# Altium integrated library TI Data Converters Digital to Analog Converter.IntLib: 1533 symbols (part 68 of 99)
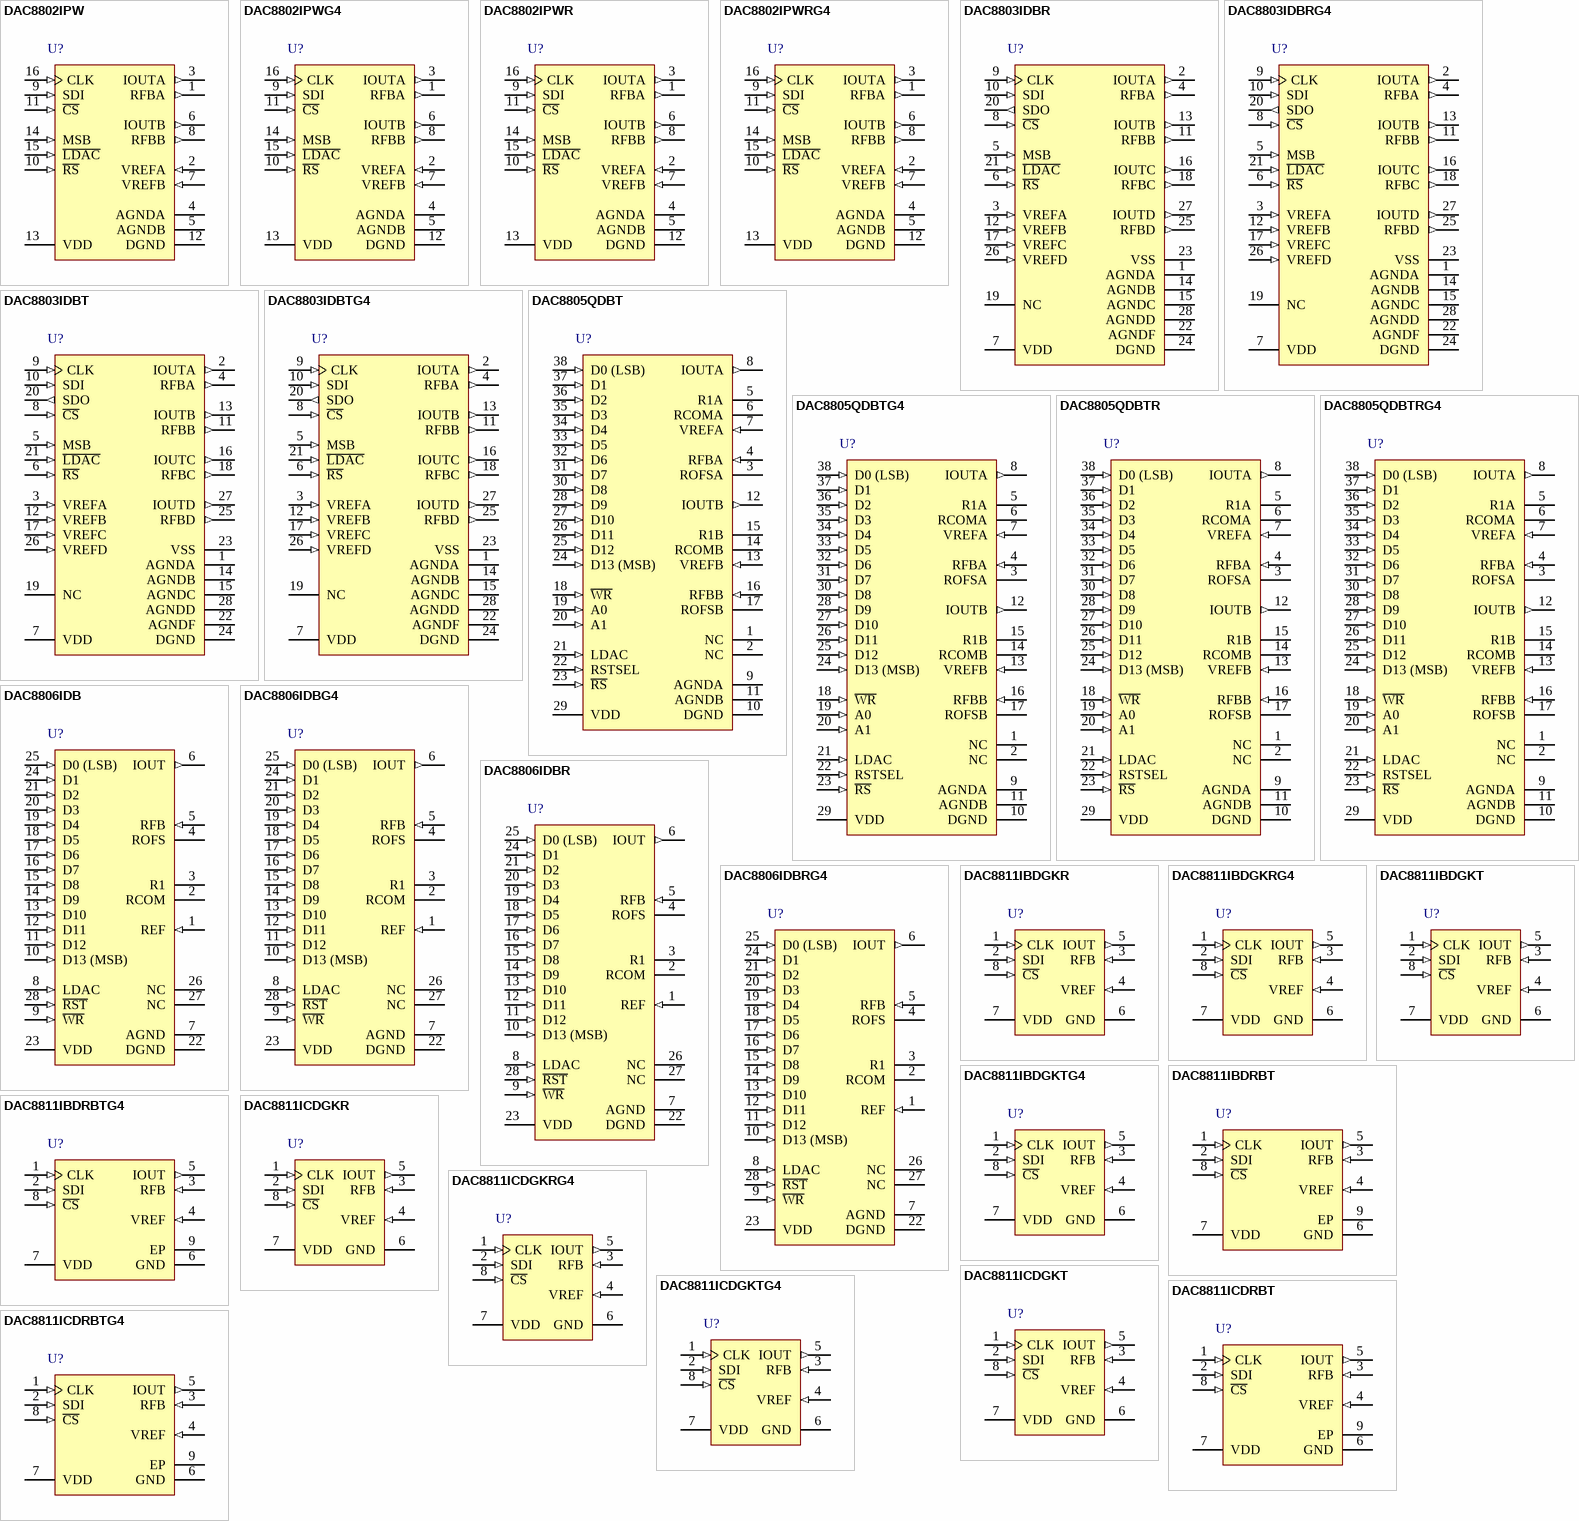
[diagram p140: symbols DAC8802IPW to DAC8811ICDRBTG4]

## DAC8811IBDGKRG4
designator U?
16-Bit, Serial Input Multiplying Digital to Analog Converter, -40 to 85 degC, 8-pin SOP (DGK8), Green (RoHS & no Sb/Br); Manufacturer: Texas Instruments; PartNumber: DAC8811IBDGKRG4; DAC Channels: 1; INL(Max)(+/-LSB): 2; Interface: Serial SPI; Power Consumption(Typ)(mW): 0.025; Resolution(Bits): 16; Settling Time(us): 0.5; SubFamily: Precision DAC (=<10MSPS); DatasheetVersion: SLAS411B; PackageVersion: 4073329/E, 05/2006; PackageReference: DGK8; PackageDescription: 8-Pin Thin Small Outline, Body 3 x 3 mm, Pitch 0.65 mm; Supplier 1: Digi-Key; Supplier Part Number 1: DAC8811IBDGKRG4-ND; Supplier 2: Mouser; Supplier Part Number 2: 595-DAC8811IBDGKRG4; DNL(Max)(+/-LSB): 1; Eco-Plan: Green (RoHS & no Sb/Br); Mounting Technology: Surface Mount; Code_JEDEC: MO-187; ComponentLink1Description: Manufacturer URL; ComponentLink1URL: http://www.ti.com/; ComponentLink2Description: Datasheet; ComponentLink2URL: http://www.ti.com/general/docs/lit/getliterature.tsp?genericPartNumber=DAC8811&fileType=pdf; ComponentLink3Description: Package Specification; ComponentLink3URL: http://www.ti.com/litv/pdf/mpds028d
footprint TI-DGK8_N (SOP, 8-Leads, Body 3x3mm, Pitch 0.65mm, IPC Medium Density)
footprint TI-DGK8_L (SOP, 8-Leads, Body 3x3mm, Pitch 0.65mm, IPC High Density)
footprint TI-DGK8_M (SOP, 8-Leads, Body 3x3mm, Pitch 0.65mm, IPC Low Density)
pins: 1 CLK (in) "Clock input, positive edge triggered clocks data into shift register", 2 SDI (in) "Serial register input, data loads directly into the shift register MSB first. Extra leading bits are ignored", 3 RFB (in) "Internal matching feedback resistor. Connect to external op amp output.", 4 VREF (in) "DAC reference input pin. Establishes DAC full-scale voltage. Constant input resistance versus code", 5 IOUT (out) "DAC current output. Connects to inverting terminal of external precision I to V op amp.", 6 GND (power) "Analog and digital ground", 7 VDD (power) "Posiitve power supply input. Specified range of operation 2.7 V to 5.5 V", 8 ~{CS} (in) "Chip select, active low digital input. Transfers shift register data to DAC register on rising edge."

## DAC8811IBDGKT
designator U?
16-Bit, Serial Input Multiplying Digital to Analog Converter, -40 to 85 degC, 8-pin SOP (DGK8), Green (RoHS & no Sb/Br); Manufacturer: Texas Instruments; PartNumber: DAC8811IBDGKT; DAC Channels: 1; INL(Max)(+/-LSB): 2; Interface: Serial SPI; Power Consumption(Typ)(mW): 0.025; Resolution(Bits): 16; Settling Time(us): 0.5; SubFamily: Precision DAC (=<10MSPS); DatasheetVersion: SLAS411B; PackageVersion: 4073329/E, 05/2006; PackageReference: DGK8; PackageDescription: 8-Pin Thin Small Outline, Body 3 x 3 mm, Pitch 0.65 mm; Supplier 1: Digi-Key; Supplier Part Number 1: 296-17643-2-ND; Supplier 2: Digi-Key; Supplier Part Number 2: 296-17643-1-ND; Supplier 3: Newark; Supplier Part Number 3: 73J8228; Supplier 4: Mouser; Supplier Part Number 4: 595-DAC8811IBDGKT; DNL(Max)(+/-LSB): 1; Eco-Plan: Green (RoHS & no Sb/Br); Mounting Technology: Surface Mount; Code_JEDEC: MO-187; ComponentLink1Description: Manufacturer URL; ComponentLink1URL: http://www.ti.com/; ComponentLink2Description: Datasheet; ComponentLink2URL: http://www.ti.com/general/docs/lit/getliterature.tsp?genericPartNumber=DAC8811&fileType=pdf; ComponentLink3Description: Package Specification; ComponentLink3URL: http://www.ti.com/litv/pdf/mpds028d
footprint TI-DGK8_N (SOP, 8-Leads, Body 3x3mm, Pitch 0.65mm, IPC Medium Density)
footprint TI-DGK8_L (SOP, 8-Leads, Body 3x3mm, Pitch 0.65mm, IPC High Density)
footprint TI-DGK8_M (SOP, 8-Leads, Body 3x3mm, Pitch 0.65mm, IPC Low Density)
pins: 1 CLK (in) "Clock input, positive edge triggered clocks data into shift register", 2 SDI (in) "Serial register input, data loads directly into the shift register MSB first. Extra leading bits are ignored", 3 RFB (in) "Internal matching feedback resistor. Connect to external op amp output.", 4 VREF (in) "DAC reference input pin. Establishes DAC full-scale voltage. Constant input resistance versus code", 5 IOUT (out) "DAC current output. Connects to inverting terminal of external precision I to V op amp.", 6 GND (power) "Analog and digital ground", 7 VDD (power) "Posiitve power supply input. Specified range of operation 2.7 V to 5.5 V", 8 ~{CS} (in) "Chip select, active low digital input. Transfers shift register data to DAC register on rising edge."

## DAC8811IBDGKTG4
designator U?
16-Bit, Serial Input Multiplying Digital to Analog Converter, -40 to 85 degC, 8-pin SOP (DGK8), Green (RoHS & no Sb/Br); Manufacturer: Texas Instruments; PartNumber: DAC8811IBDGKTG4; DAC Channels: 1; INL(Max)(+/-LSB): 2; Interface: Serial SPI; Power Consumption(Typ)(mW): 0.025; Resolution(Bits): 16; Settling Time(us): 0.5; SubFamily: Precision DAC (=<10MSPS); DatasheetVersion: SLAS411B; PackageVersion: 4073329/E, 05/2006; PackageReference: DGK8; PackageDescription: 8-Pin Thin Small Outline, Body 3 x 3 mm, Pitch 0.65 mm; Supplier 1: Digi-Key; Supplier Part Number 1: DAC8811IBDGKTG4-ND; Supplier 2: Mouser; Supplier Part Number 2: 595-DAC8811IBDGKTG4; DNL(Max)(+/-LSB): 1; Eco-Plan: Green (RoHS & no Sb/Br); Mounting Technology: Surface Mount; Code_JEDEC: MO-187; ComponentLink1Description: Manufacturer URL; ComponentLink1URL: http://www.ti.com/; ComponentLink2Description: Datasheet; ComponentLink2URL: http://www.ti.com/general/docs/lit/getliterature.tsp?genericPartNumber=DAC8811&fileType=pdf; ComponentLink3Description: Package Specification; ComponentLink3URL: http://www.ti.com/litv/pdf/mpds028d
footprint TI-DGK8_N (SOP, 8-Leads, Body 3x3mm, Pitch 0.65mm, IPC Medium Density)
footprint TI-DGK8_L (SOP, 8-Leads, Body 3x3mm, Pitch 0.65mm, IPC High Density)
footprint TI-DGK8_M (SOP, 8-Leads, Body 3x3mm, Pitch 0.65mm, IPC Low Density)
pins: 1 CLK (in) "Clock input, positive edge triggered clocks data into shift register", 2 SDI (in) "Serial register input, data loads directly into the shift register MSB first. Extra leading bits are ignored", 3 RFB (in) "Internal matching feedback resistor. Connect to external op amp output.", 4 VREF (in) "DAC reference input pin. Establishes DAC full-scale voltage. Constant input resistance versus code", 5 IOUT (out) "DAC current output. Connects to inverting terminal of external precision I to V op amp.", 6 GND (power) "Analog and digital ground", 7 VDD (power) "Posiitve power supply input. Specified range of operation 2.7 V to 5.5 V", 8 ~{CS} (in) "Chip select, active low digital input. Transfers shift register data to DAC register on rising edge."

## DAC8811IBDRBT
designator U?
16-Bit, Serial Input Multiplying Digital to Analog Converter, -40 to 85 degC, 8-pin SON (DRB8), Green (RoHS & no Sb/Br); Manufacturer: Texas Instruments; PartNumber: DAC8811IBDRBT; DAC Channels: 1; INL(Max)(+/-LSB): 2; Interface: Serial SPI; Power Consumption(Typ)(mW): 0.025; Resolution(Bits): 16; Settling Time(us): 0.5; SubFamily: Precision DAC (=<10MSPS); DatasheetVersion: SLAS411B; PackageVersion: 4203482-2/K, 06/2012; PackageReference: DRB8-1750X1500TP; PackageDescription: 8-Pin Plastic Small Outline, Body 3 x 3 mm, Pitch 0.65 mm; Supplier 1: Digi-Key; Supplier Part Number 1: 296-17644-2-ND; Supplier 2: Digi-Key; Supplier Part Number 2: 296-17644-1-ND; Supplier 3: Digi-Key; Supplier Part Number 3: 296-17644-6-ND; Supplier 4: Mouser; Supplier Part Number 4: 595-DAC8811IBDRBT; DNL(Max)(+/-LSB): 1; Eco-Plan: Green (RoHS & no Sb/Br); Mounting Technology: Surface Mount; ComponentLink1Description: Manufacturer URL; ComponentLink1URL: http://www.ti.com/; ComponentLink2Description: Datasheet; ComponentLink2URL: http://www.ti.com/general/docs/lit/getliterature.tsp?genericPartNumber=DAC8811&fileType=pdf; ComponentLink3Description: Package Specification; ComponentLink3URL: http://www.ti.com/litv/pdf/mpds118h
footprint TI-DRB8-1750X1500TP_V (SON, 8-Leads, Body 3x3mm, Pitch 0.65mm, Thermal Pad 1.50 x 3.8mm)
pins: 1 CLK (in) "Clock input, positive edge triggered clocks data into shift register", 2 SDI (in) "Serial register input, data loads directly into the shift register MSB first. Extra leading bits are ignored", 3 RFB (in) "Internal matching feedback resistor. Connect to external op amp output.", 4 VREF (in) "DAC reference input pin. Establishes DAC full-scale voltage. Constant input resistance versus code", 5 IOUT (out) "DAC current output. Connects to inverting terminal of external precision I to V op amp.", 6 GND (power) "Analog and digital ground", 7 VDD (power) "Posiitve power supply input. Specified range of operation 2.7 V to 5.5 V", 8 ~{CS} (in) "Chip select, active low digital input. Transfers shift register data to DAC register on rising edge.", 9 EP

## DAC8811IBDRBTG4
designator U?
16-Bit, Serial Input Multiplying Digital to Analog Converter, -40 to 85 degC, 8-pin SON (DRB8), Green (RoHS & no Sb/Br); Manufacturer: Texas Instruments; PartNumber: DAC8811IBDRBTG4; DAC Channels: 1; INL(Max)(+/-LSB): 2; Interface: Serial SPI; Power Consumption(Typ)(mW): 0.025; Resolution(Bits): 16; Settling Time(us): 0.5; SubFamily: Precision DAC (=<10MSPS); DatasheetVersion: SLAS411B; PackageVersion: 4203482-2/K, 06/2012; PackageReference: DRB8-1750X1500TP; PackageDescription: 8-Pin Plastic Small Outline, Body 3 x 3 mm, Pitch 0.65 mm; Supplier 1: Digi-Key; Supplier Part Number 1: DAC8811IBDRBTG4-ND; Supplier 2: Mouser; Supplier Part Number 2: 595-DAC8811IBDRBTG4; DNL(Max)(+/-LSB): 1; Eco-Plan: Green (RoHS & no Sb/Br); Mounting Technology: Surface Mount; ComponentLink1Description: Manufacturer URL; ComponentLink1URL: http://www.ti.com/; ComponentLink2Description: Datasheet; ComponentLink2URL: http://www.ti.com/general/docs/lit/getliterature.tsp?genericPartNumber=DAC8811&fileType=pdf; ComponentLink3Description: Package Specification; ComponentLink3URL: http://www.ti.com/litv/pdf/mpds118h
footprint TI-DRB8-1750X1500TP_V (SON, 8-Leads, Body 3x3mm, Pitch 0.65mm, Thermal Pad 1.50 x 3.8mm)
pins: 1 CLK (in) "Clock input, positive edge triggered clocks data into shift register", 2 SDI (in) "Serial register input, data loads directly into the shift register MSB first. Extra leading bits are ignored", 3 RFB (in) "Internal matching feedback resistor. Connect to external op amp output.", 4 VREF (in) "DAC reference input pin. Establishes DAC full-scale voltage. Constant input resistance versus code", 5 IOUT (out) "DAC current output. Connects to inverting terminal of external precision I to V op amp.", 6 GND (power) "Analog and digital ground", 7 VDD (power) "Posiitve power supply input. Specified range of operation 2.7 V to 5.5 V", 8 ~{CS} (in) "Chip select, active low digital input. Transfers shift register data to DAC register on rising edge.", 9 EP

## DAC8811ICDGKR
designator U?
16-Bit, Serial Input Multiplying Digital to Analog Converter, -40 to 85 degC, 8-pin SOP (DGK8), Green (RoHS & no Sb/Br); Manufacturer: Texas Instruments; PartNumber: DAC8811ICDGKR; DAC Channels: 1; Interface: Serial SPI; Power Consumption(Typ)(mW): 0.025; Resolution(Bits): 16; Settling Time(us): 0.5; SubFamily: Precision DAC (=<10MSPS); DatasheetVersion: SLAS411B; PackageVersion: 4073329/E, 05/2006; PackageReference: DGK8; PackageDescription: 8-Pin Thin Small Outline, Body 3 x 3 mm, Pitch 0.65 mm; Supplier 1: Digi-Key; Supplier Part Number 1: DAC8811ICDGKR-ND; Supplier 2: Newark; Supplier Part Number 2: 73J8231; Supplier 3: Mouser; Supplier Part Number 3: 595-DAC8811ICDGKR; DNL(Max)(+/-LSB): 1; Eco-Plan: Green (RoHS & no Sb/Br); INL(Max)(+/-LSB): 1; Mounting Technology: Surface Mount; Code_JEDEC: MO-187; ComponentLink1Description: Manufacturer URL; ComponentLink1URL: http://www.ti.com/; ComponentLink2Description: Datasheet; ComponentLink2URL: http://www.ti.com/general/docs/lit/getliterature.tsp?genericPartNumber=DAC8811&fileType=pdf; ComponentLink3Description: Package Specification; ComponentLink3URL: http://www.ti.com/litv/pdf/mpds028d
footprint TI-DGK8_N (SOP, 8-Leads, Body 3x3mm, Pitch 0.65mm, IPC Medium Density)
footprint TI-DGK8_L (SOP, 8-Leads, Body 3x3mm, Pitch 0.65mm, IPC High Density)
footprint TI-DGK8_M (SOP, 8-Leads, Body 3x3mm, Pitch 0.65mm, IPC Low Density)
pins: 1 CLK (in) "Clock input, positive edge triggered clocks data into shift register", 2 SDI (in) "Serial register input, data loads directly into the shift register MSB first. Extra leading bits are ignored", 3 RFB (in) "Internal matching feedback resistor. Connect to external op amp output.", 4 VREF (in) "DAC reference input pin. Establishes DAC full-scale voltage. Constant input resistance versus code", 5 IOUT (out) "DAC current output. Connects to inverting terminal of external precision I to V op amp.", 6 GND (power) "Analog and digital ground", 7 VDD (power) "Posiitve power supply input. Specified range of operation 2.7 V to 5.5 V", 8 ~{CS} (in) "Chip select, active low digital input. Transfers shift register data to DAC register on rising edge."

## DAC8811ICDGKRG4
designator U?
16-Bit, Serial Input Multiplying Digital to Analog Converter, -40 to 85 degC, 8-pin SOP (DGK8), Green (RoHS & no Sb/Br); Manufacturer: Texas Instruments; PartNumber: DAC8811ICDGKRG4; DAC Channels: 1; Interface: Serial SPI; Power Consumption(Typ)(mW): 0.025; Resolution(Bits): 16; Settling Time(us): 0.5; SubFamily: Precision DAC (=<10MSPS); DatasheetVersion: SLAS411B; PackageVersion: 4073329/E, 05/2006; PackageReference: DGK8; PackageDescription: 8-Pin Thin Small Outline, Body 3 x 3 mm, Pitch 0.65 mm; Supplier 1: Digi-Key; Supplier Part Number 1: DAC8811ICDGKRG4-ND; Supplier 2: Newark; Supplier Part Number 2: 20M5095; Supplier 3: Mouser; Supplier Part Number 3: 595-DAC8811ICDGKRG4; DNL(Max)(+/-LSB): 1; Eco-Plan: Green (RoHS & no Sb/Br); INL(Max)(+/-LSB): 1; Mounting Technology: Surface Mount; Code_JEDEC: MO-187; ComponentLink1Description: Manufacturer URL; ComponentLink1URL: http://www.ti.com/; ComponentLink2Description: Datasheet; ComponentLink2URL: http://www.ti.com/general/docs/lit/getliterature.tsp?genericPartNumber=DAC8811&fileType=pdf; ComponentLink3Description: Package Specification; ComponentLink3URL: http://www.ti.com/litv/pdf/mpds028d
footprint TI-DGK8_N (SOP, 8-Leads, Body 3x3mm, Pitch 0.65mm, IPC Medium Density)
footprint TI-DGK8_L (SOP, 8-Leads, Body 3x3mm, Pitch 0.65mm, IPC High Density)
footprint TI-DGK8_M (SOP, 8-Leads, Body 3x3mm, Pitch 0.65mm, IPC Low Density)
pins: 1 CLK (in) "Clock input, positive edge triggered clocks data into shift register", 2 SDI (in) "Serial register input, data loads directly into the shift register MSB first. Extra leading bits are ignored", 3 RFB (in) "Internal matching feedback resistor. Connect to external op amp output.", 4 VREF (in) "DAC reference input pin. Establishes DAC full-scale voltage. Constant input resistance versus code", 5 IOUT (out) "DAC current output. Connects to inverting terminal of external precision I to V op amp.", 6 GND (power) "Analog and digital ground", 7 VDD (power) "Posiitve power supply input. Specified range of operation 2.7 V to 5.5 V", 8 ~{CS} (in) "Chip select, active low digital input. Transfers shift register data to DAC register on rising edge."

## DAC8811ICDGKT
designator U?
16-Bit, Serial Input Multiplying Digital to Analog Converter, -40 to 85 degC, 8-pin SOP (DGK8), Green (RoHS & no Sb/Br); Manufacturer: Texas Instruments; PartNumber: DAC8811ICDGKT; DAC Channels: 1; Interface: Serial SPI; Power Consumption(Typ)(mW): 0.025; Resolution(Bits): 16; Settling Time(us): 0.5; SubFamily: Precision DAC (=<10MSPS); DatasheetVersion: SLAS411B; PackageVersion: 4073329/E, 05/2006; PackageReference: DGK8; PackageDescription: 8-Pin Thin Small Outline, Body 3 x 3 mm, Pitch 0.65 mm; Supplier 1: Digi-Key; Supplier Part Number 1: 296-17645-2-ND; Supplier 2: Digi-Key; Supplier Part Number 2: 296-17645-1-ND; Supplier 3: Digi-Key; Supplier Part Number 3: 296-17645-6-ND; Supplier 4: Newark; Supplier Part Number 4: 73J8232; Supplier 5: Mouser; Supplier Part Number 5: 595-DAC8811ICDGKT; DNL(Max)(+/-LSB): 1; Eco-Plan: Green (RoHS & no Sb/Br); INL(Max)(+/-LSB): 1; Mounting Technology: Surface Mount; Code_JEDEC: MO-187; ComponentLink1Description: Manufacturer URL; ComponentLink1URL: http://www.ti.com/; ComponentLink2Description: Datasheet; ComponentLink2URL: http://www.ti.com/general/docs/lit/getliterature.tsp?genericPartNumber=DAC8811&fileType=pdf; ComponentLink3Description: Package Specification; ComponentLink3URL: http://www.ti.com/litv/pdf/mpds028d
footprint TI-DGK8_N (SOP, 8-Leads, Body 3x3mm, Pitch 0.65mm, IPC Medium Density)
footprint TI-DGK8_L (SOP, 8-Leads, Body 3x3mm, Pitch 0.65mm, IPC High Density)
footprint TI-DGK8_M (SOP, 8-Leads, Body 3x3mm, Pitch 0.65mm, IPC Low Density)
pins: 1 CLK (in) "Clock input, positive edge triggered clocks data into shift register", 2 SDI (in) "Serial register input, data loads directly into the shift register MSB first. Extra leading bits are ignored", 3 RFB (in) "Internal matching feedback resistor. Connect to external op amp output.", 4 VREF (in) "DAC reference input pin. Establishes DAC full-scale voltage. Constant input resistance versus code", 5 IOUT (out) "DAC current output. Connects to inverting terminal of external precision I to V op amp.", 6 GND (power) "Analog and digital ground", 7 VDD (power) "Posiitve power supply input. Specified range of operation 2.7 V to 5.5 V", 8 ~{CS} (in) "Chip select, active low digital input. Transfers shift register data to DAC register on rising edge."

## DAC8811ICDGKTG4
designator U?
16-Bit, Serial Input Multiplying Digital to Analog Converter, -40 to 85 degC, 8-pin SOP (DGK8), Green (RoHS & no Sb/Br); Manufacturer: Texas Instruments; PartNumber: DAC8811ICDGKTG4; DAC Channels: 1; Interface: Serial SPI; Power Consumption(Typ)(mW): 0.025; Resolution(Bits): 16; Settling Time(us): 0.5; SubFamily: Precision DAC (=<10MSPS); DatasheetVersion: SLAS411B; PackageVersion: 4073329/E, 05/2006; PackageReference: DGK8; PackageDescription: 8-Pin Thin Small Outline, Body 3 x 3 mm, Pitch 0.65 mm; Supplier 1: Digi-Key; Supplier Part Number 1: DAC8811ICDGKTG4-ND; Supplier 2: Newark; Supplier Part Number 2: 26M9130; Supplier 3: Mouser; Supplier Part Number 3: 595-DAC8811ICDGKTG4; DNL(Max)(+/-LSB): 1; Eco-Plan: Green (RoHS & no Sb/Br); INL(Max)(+/-LSB): 1; Mounting Technology: Surface Mount; Code_JEDEC: MO-187; ComponentLink1Description: Manufacturer URL; ComponentLink1URL: http://www.ti.com/; ComponentLink2Description: Datasheet; ComponentLink2URL: http://www.ti.com/general/docs/lit/getliterature.tsp?genericPartNumber=DAC8811&fileType=pdf; ComponentLink3Description: Package Specification; ComponentLink3URL: http://www.ti.com/litv/pdf/mpds028d
footprint TI-DGK8_N (SOP, 8-Leads, Body 3x3mm, Pitch 0.65mm, IPC Medium Density)
footprint TI-DGK8_L (SOP, 8-Leads, Body 3x3mm, Pitch 0.65mm, IPC High Density)
footprint TI-DGK8_M (SOP, 8-Leads, Body 3x3mm, Pitch 0.65mm, IPC Low Density)
pins: 1 CLK (in) "Clock input, positive edge triggered clocks data into shift register", 2 SDI (in) "Serial register input, data loads directly into the shift register MSB first. Extra leading bits are ignored", 3 RFB (in) "Internal matching feedback resistor. Connect to external op amp output.", 4 VREF (in) "DAC reference input pin. Establishes DAC full-scale voltage. Constant input resistance versus code", 5 IOUT (out) "DAC current output. Connects to inverting terminal of external precision I to V op amp.", 6 GND (power) "Analog and digital ground", 7 VDD (power) "Posiitve power supply input. Specified range of operation 2.7 V to 5.5 V", 8 ~{CS} (in) "Chip select, active low digital input. Transfers shift register data to DAC register on rising edge."

## DAC8811ICDRBT
designator U?
16-Bit, Serial Input Multiplying Digital to Analog Converter, -40 to 85 degC, 8-pin SON (DRB8), Green (RoHS & no Sb/Br); Manufacturer: Texas Instruments; PartNumber: DAC8811ICDRBT; DAC Channels: 1; Interface: Serial SPI; Power Consumption(Typ)(mW): 0.025; Resolution(Bits): 16; Settling Time(us): 0.5; SubFamily: Precision DAC (=<10MSPS); DatasheetVersion: SLAS411B; PackageVersion: 4203482-2/K, 06/2012; PackageReference: DRB8-1750X1500TP; PackageDescription: 8-Pin Plastic Small Outline, Body 3 x 3 mm, Pitch 0.65 mm; Supplier 1: Digi-Key; Supplier Part Number 1: 296-17646-2-ND; Supplier 2: Digi-Key; Supplier Part Number 2: 296-17646-1-ND; Supplier 3: Digi-Key; Supplier Part Number 3: 296-17646-6-ND; Supplier 4: Mouser; Supplier Part Number 4: 595-DAC8811ICDRBT; DNL(Max)(+/-LSB): 1; Eco-Plan: Green (RoHS & no Sb/Br); INL(Max)(+/-LSB): 1; Mounting Technology: Surface Mount; ComponentLink1Description: Manufacturer URL; ComponentLink1URL: http://www.ti.com/; ComponentLink2Description: Datasheet; ComponentLink2URL: http://www.ti.com/general/docs/lit/getliterature.tsp?genericPartNumber=DAC8811&fileType=pdf; ComponentLink3Description: Package Specification; ComponentLink3URL: http://www.ti.com/litv/pdf/mpds118h
footprint TI-DRB8-1750X1500TP_V (SON, 8-Leads, Body 3x3mm, Pitch 0.65mm, Thermal Pad 1.50 x 3.8mm)
pins: 1 CLK (in) "Clock input, positive edge triggered clocks data into shift register", 2 SDI (in) "Serial register input, data loads directly into the shift register MSB first. Extra leading bits are ignored", 3 RFB (in) "Internal matching feedback resistor. Connect to external op amp output.", 4 VREF (in) "DAC reference input pin. Establishes DAC full-scale voltage. Constant input resistance versus code", 5 IOUT (out) "DAC current output. Connects to inverting terminal of external precision I to V op amp.", 6 GND (power) "Analog and digital ground", 7 VDD (power) "Posiitve power supply input. Specified range of operation 2.7 V to 5.5 V", 8 ~{CS} (in) "Chip select, active low digital input. Transfers shift register data to DAC register on rising edge.", 9 EP

## DAC8811ICDRBTG4
designator U?
16-Bit, Serial Input Multiplying Digital to Analog Converter, -40 to 85 degC, 8-pin SON (DRB8), Green (RoHS & no Sb/Br); Manufacturer: Texas Instruments; PartNumber: DAC8811ICDRBTG4; DAC Channels: 1; Interface: Serial SPI; Power Consumption(Typ)(mW): 0.025; Resolution(Bits): 16; Settling Time(us): 0.5; SubFamily: Precision DAC (=<10MSPS); DatasheetVersion: SLAS411B; PackageVersion: 4203482-2/K, 06/2012; PackageReference: DRB8-1750X1500TP; PackageDescription: 8-Pin Plastic Small Outline, Body 3 x 3 mm, Pitch 0.65 mm; Supplier 1: Digi-Key; Supplier Part Number 1: DAC8811ICDRBTG4-ND; Supplier 2: Mouser; Supplier Part Number 2: 595-DAC8811ICDRBTG4; DNL(Max)(+/-LSB): 1; Eco-Plan: Green (RoHS & no Sb/Br); INL(Max)(+/-LSB): 1; Mounting Technology: Surface Mount; ComponentLink1Description: Manufacturer URL; ComponentLink1URL: http://www.ti.com/; ComponentLink2Description: Datasheet; ComponentLink2URL: http://www.ti.com/general/docs/lit/getliterature.tsp?genericPartNumber=DAC8811&fileType=pdf; ComponentLink3Description: Package Specification; ComponentLink3URL: http://www.ti.com/litv/pdf/mpds118h
footprint TI-DRB8-1750X1500TP_V (SON, 8-Leads, Body 3x3mm, Pitch 0.65mm, Thermal Pad 1.50 x 3.8mm)
pins: 1 CLK (in) "Clock input, positive edge triggered clocks data into shift register", 2 SDI (in) "Serial register input, data loads directly into the shift register MSB first. Extra leading bits are ignored", 3 RFB (in) "Internal matching feedback resistor. Connect to external op amp output.", 4 VREF (in) "DAC reference input pin. Establishes DAC full-scale voltage. Constant input resistance versus code", 5 IOUT (out) "DAC current output. Connects to inverting terminal of external precision I to V op amp.", 6 GND (power) "Analog and digital ground", 7 VDD (power) "Posiitve power supply input. Specified range of operation 2.7 V to 5.5 V", 8 ~{CS} (in) "Chip select, active low digital input. Transfers shift register data to DAC register on rising edge.", 9 EP

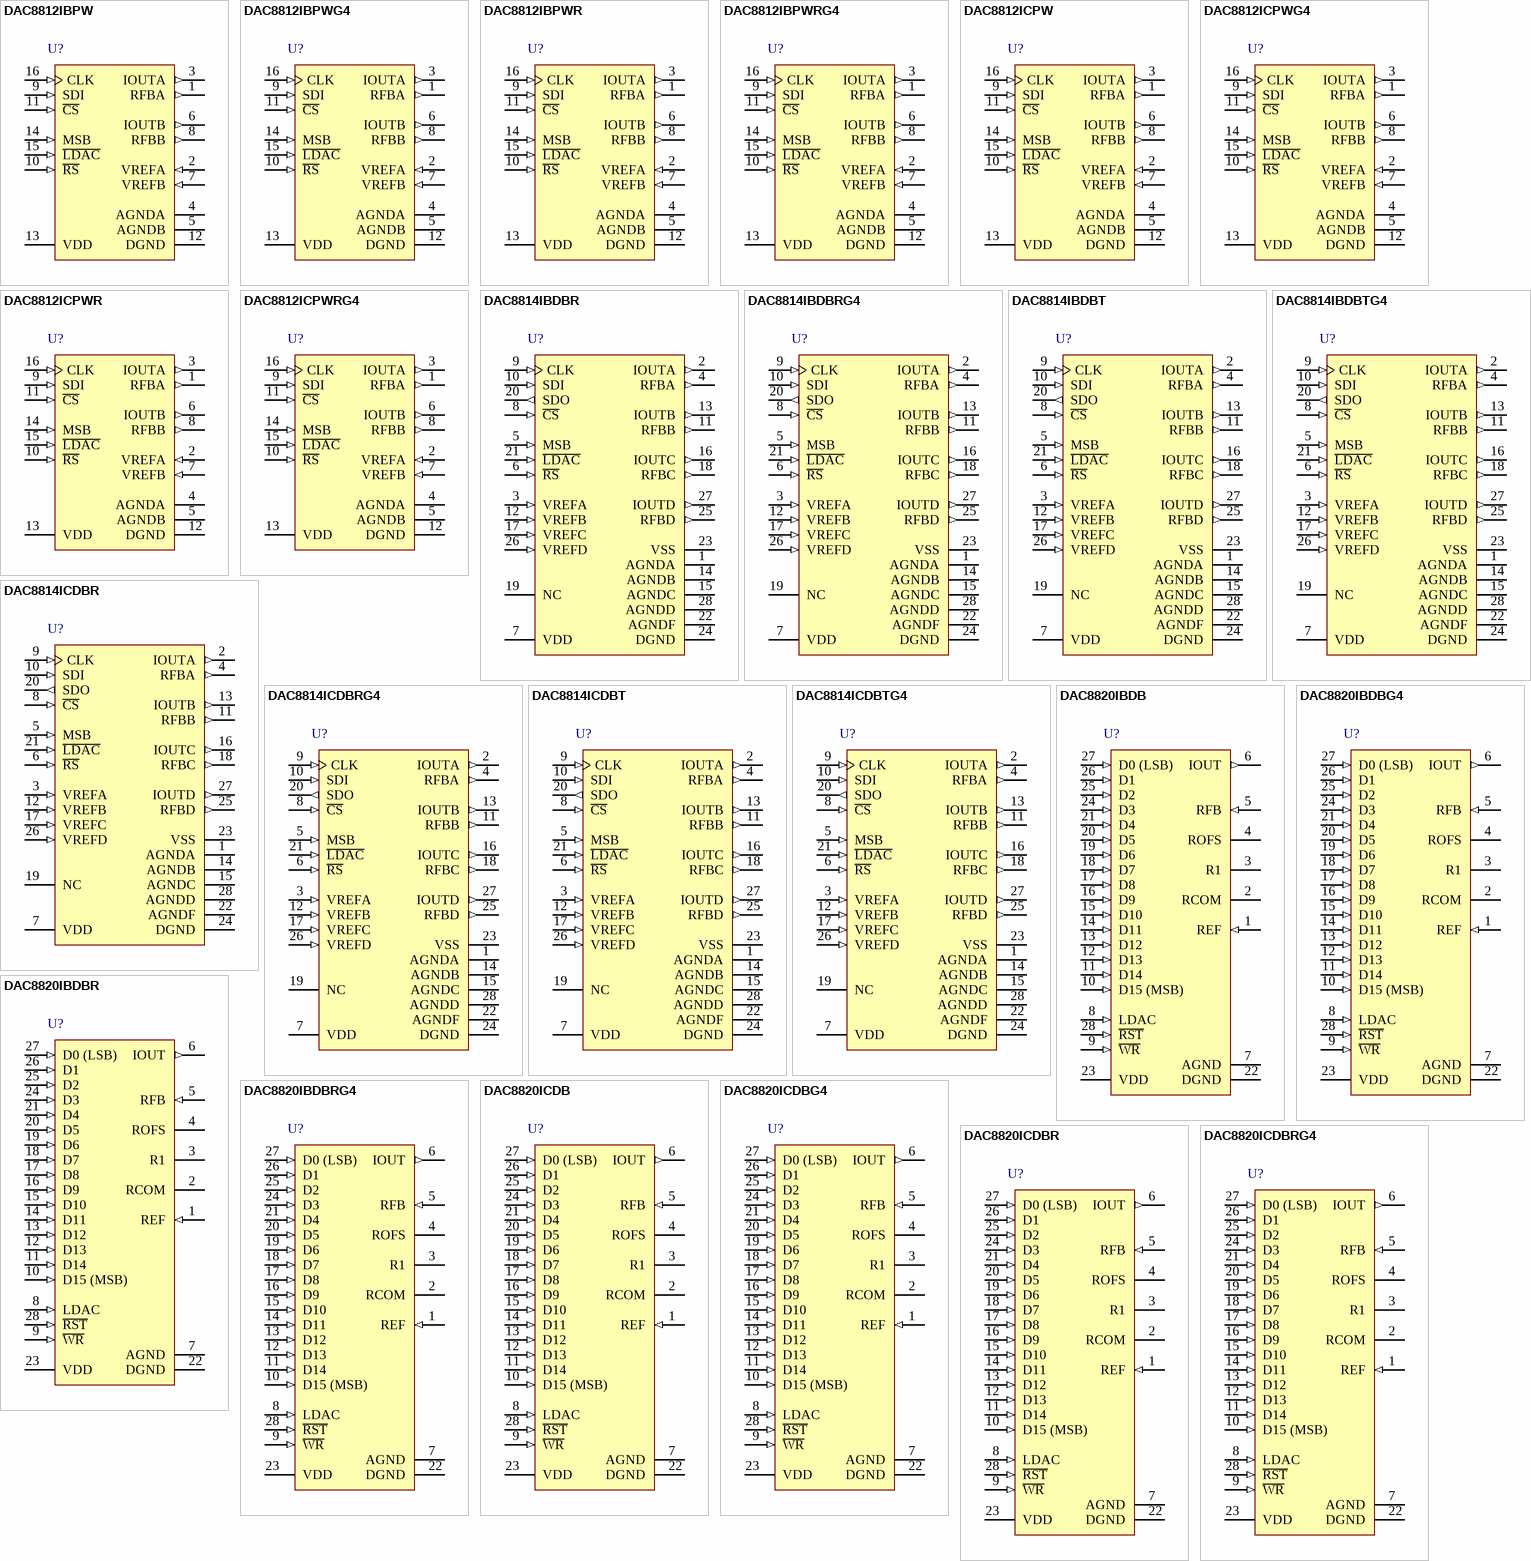
[diagram p52: symbols DAC8812IBPW to DAC8820ICDBRG4]

## DAC8812IBPW
designator U?
16-Bit, Dual Serial Input Multiplying DAC, -40 to 85 degC, 16-pin SOP (PW16), Green (RoHS & no Sb/Br); Manufacturer: Texas Instruments; PartNumber: DAC8812IBPW; DAC Channels: 2; DNL(Max)(+/-LSB): 1; Interface: Serial SPI; Power Consumption(Typ)(mW): 0.025; Resolution(Bits): 16; Settling Time(us): 0.5; SubFamily: Precision DAC (=<10MSPS); DatasheetVersion: SBAS349B; PackageVersion: 4040064-4/G, 02/2011; PackageReference: PW16; PackageDescription: 16-Pin Plastic Small Outline, Body 5 x 4.4 mm, Pitch 0.65 mm; Supplier 1: Digi-Key; Supplier Part Number 1: 296-19406-5-ND; Supplier 2: Farnell; Supplier Part Number 2: 1564902; Supplier 3: Newark; Supplier Part Number 3: 96M9950; Supplier 4: Newark; Supplier Part Number 4: 71K2664; Supplier 5: Mouser; Supplier Part Number 5: 595-DAC8812IBPW; Eco-Plan: Green (RoHS & no Sb/Br); INL(Max)(+/-LSB): 2; Mounting Technology: Surface Mount; Code_JEDEC: MO-153; ComponentLink1Description: Manufacturer URL; ComponentLink1URL: http://www.ti.com/; ComponentLink2Description: Datasheet; ComponentLink2URL: http://www.ti.com/general/docs/lit/getliterature.tsp?genericPartNumber=DAC8812&fileType=pdf; ComponentLink3Description: Package Specification; ComponentLink3URL: http://www.ti.com/lit/ml/mpds361/mpds361.pdf
footprint TI-PW16_N (SOP, 16-Leads, Body 5x4.4mm, Pitch 0.65mm, IPC Medium Density)
footprint TI-PW16_L (SOP, 16-Leads, Body 5x4.4mm, Pitch 0.65mm, IPC High Density)
footprint TI-PW16_M (SOP, 16-Leads, Body 5x4.4mm, Pitch 0.65mm, IPC Low Density)
pins: 1 RFBA (out) "Establish voltage output for DAC A by connecting to external amplifier output.", 2 VREFA (in) "DAC A Reference voltage input terminal. Establishes DAC A full-scale output voltage. Can be tied to VDD pin.", 3 IOUTA (out) "DAC A Current output.", 4 AGNDA (power) "DAC A Analog ground.", 5 AGNDB (power) "DAC B Analog ground.", 6 IOUTB (out) "DAC B Current output.", 7 VREFB (in) "DAC B Reference voltage input terminal. Establishes DAC B full-scale output voltage. Can be tied to VDD pin.", 8 RFBB (out) "Establish voltage output for DAC B by connecting to external amplifier output.", 9 SDI (in) "Serial data input; data loads directly into the shift register.", 10 ~{RS} (in) "Reset pin; active low input. Input registers and DAC registers are set to all 0s or midscale. Register data = 0x0000 when MSB = 0. Register data = 0x8000 when MSB = 1 for DAC8802.", 11 ~{CS} (in) "Chip-select; active low input. Disables shift register loading when high. Transfers serial register data to input register when C\S\ goes high. Does not affect L\D\A\C\ operation.", 12 DGND (power) "Digital ground.", 13 VDD (power) "Positive power-supply input. Specified range of operation 2.7 V to 5.5 V.", 14 MSB (in) "MSB bit sets output to either 0 or midscale during a RESET pulse (R\S\) or at system power-on. Output equals zero scale when MSB = 0 and midscale when MSB = 1. MSB pin can be permanently tied to ground or VDD.", 15 ~{LDAC} (in) "Load DAC register strobe; level sensitive active low. Transfers all input register data to the DAC registers. Asynchronous active low input. See Table 2 for operation.", 16 CLK (in) "Clock input. Positive edge clocks data into shift register."

## DAC8812IBPWG4
designator U?
16-Bit, Dual Serial Input Multiplying DAC, -40 to 85 degC, 16-pin SOP (PW16), Green (RoHS & no Sb/Br); Manufacturer: Texas Instruments; PartNumber: DAC8812IBPWG4; DAC Channels: 2; DNL(Max)(+/-LSB): 1; Interface: Serial SPI; Power Consumption(Typ)(mW): 0.025; Resolution(Bits): 16; Settling Time(us): 0.5; SubFamily: Precision DAC (=<10MSPS); DatasheetVersion: SBAS349B; PackageVersion: 4040064-4/G, 02/2011; PackageReference: PW16; PackageDescription: 16-Pin Plastic Small Outline, Body 5 x 4.4 mm, Pitch 0.65 mm; Supplier 1: Digi-Key; Supplier Part Number 1: DAC8812IBPWG4-ND; Supplier 2: Mouser; Supplier Part Number 2: 595-DAC8812IBPWG4; Eco-Plan: Green (RoHS & no Sb/Br); INL(Max)(+/-LSB): 2; Mounting Technology: Surface Mount; Code_JEDEC: MO-153; ComponentLink1Description: Manufacturer URL; ComponentLink1URL: http://www.ti.com/; ComponentLink2Description: Datasheet; ComponentLink2URL: http://www.ti.com/general/docs/lit/getliterature.tsp?genericPartNumber=DAC8812&fileType=pdf; ComponentLink3Description: Package Specification; ComponentLink3URL: http://www.ti.com/lit/ml/mpds361/mpds361.pdf
footprint TI-PW16_N (SOP, 16-Leads, Body 5x4.4mm, Pitch 0.65mm, IPC Medium Density)
footprint TI-PW16_L (SOP, 16-Leads, Body 5x4.4mm, Pitch 0.65mm, IPC High Density)
footprint TI-PW16_M (SOP, 16-Leads, Body 5x4.4mm, Pitch 0.65mm, IPC Low Density)
pins: 1 RFBA (out) "Establish voltage output for DAC A by connecting to external amplifier output.", 2 VREFA (in) "DAC A Reference voltage input terminal. Establishes DAC A full-scale output voltage. Can be tied to VDD pin.", 3 IOUTA (out) "DAC A Current output.", 4 AGNDA (power) "DAC A Analog ground.", 5 AGNDB (power) "DAC B Analog ground.", 6 IOUTB (out) "DAC B Current output.", 7 VREFB (in) "DAC B Reference voltage input terminal. Establishes DAC B full-scale output voltage. Can be tied to VDD pin.", 8 RFBB (out) "Establish voltage output for DAC B by connecting to external amplifier output.", 9 SDI (in) "Serial data input; data loads directly into the shift register.", 10 ~{RS} (in) "Reset pin; active low input. Input registers and DAC registers are set to all 0s or midscale. Register data = 0x0000 when MSB = 0. Register data = 0x8000 when MSB = 1 for DAC8802.", 11 ~{CS} (in) "Chip-select; active low input. Disables shift register loading when high. Transfers serial register data to input register when C\S\ goes high. Does not affect L\D\A\C\ operation.", 12 DGND (power) "Digital ground.", 13 VDD (power) "Positive power-supply input. Specified range of operation 2.7 V to 5.5 V.", 14 MSB (in) "MSB bit sets output to either 0 or midscale during a RESET pulse (R\S\) or at system power-on. Output equals zero scale when MSB = 0 and midscale when MSB = 1. MSB pin can be permanently tied to ground or VDD.", 15 ~{LDAC} (in) "Load DAC register strobe; level sensitive active low. Transfers all input register data to the DAC registers. Asynchronous active low input. See Table 2 for operation.", 16 CLK (in) "Clock input. Positive edge clocks data into shift register."

## DAC8812IBPWR
designator U?
16-Bit, Dual Serial Input Multiplying DAC, -40 to 85 degC, 16-pin SOP (PW16), Green (RoHS & no Sb/Br); Manufacturer: Texas Instruments; PartNumber: DAC8812IBPWR; DAC Channels: 2; DNL(Max)(+/-LSB): 1; Interface: Serial SPI; Power Consumption(Typ)(mW): 0.025; Resolution(Bits): 16; Settling Time(us): 0.5; SubFamily: Precision DAC (=<10MSPS); DatasheetVersion: SBAS349B; PackageVersion: 4040064-4/G, 02/2011; PackageReference: PW16; PackageDescription: 16-Pin Plastic Small Outline, Body 5 x 4.4 mm, Pitch 0.65 mm; Supplier 1: Digi-Key; Supplier Part Number 1: DAC8812IBPWR-ND; Supplier 2: Mouser; Supplier Part Number 2: 595-DAC8812IBPWR; Eco-Plan: Green (RoHS & no Sb/Br); INL(Max)(+/-LSB): 2; Mounting Technology: Surface Mount; Code_JEDEC: MO-153; ComponentLink1Description: Manufacturer URL; ComponentLink1URL: http://www.ti.com/; ComponentLink2Description: Datasheet; ComponentLink2URL: http://www.ti.com/general/docs/lit/getliterature.tsp?genericPartNumber=DAC8812&fileType=pdf; ComponentLink3Description: Package Specification; ComponentLink3URL: http://www.ti.com/lit/ml/mpds361/mpds361.pdf
footprint TI-PW16_N (SOP, 16-Leads, Body 5x4.4mm, Pitch 0.65mm, IPC Medium Density)
footprint TI-PW16_L (SOP, 16-Leads, Body 5x4.4mm, Pitch 0.65mm, IPC High Density)
footprint TI-PW16_M (SOP, 16-Leads, Body 5x4.4mm, Pitch 0.65mm, IPC Low Density)
pins: 1 RFBA (out) "Establish voltage output for DAC A by connecting to external amplifier output.", 2 VREFA (in) "DAC A Reference voltage input terminal. Establishes DAC A full-scale output voltage. Can be tied to VDD pin.", 3 IOUTA (out) "DAC A Current output.", 4 AGNDA (power) "DAC A Analog ground.", 5 AGNDB (power) "DAC B Analog ground.", 6 IOUTB (out) "DAC B Current output.", 7 VREFB (in) "DAC B Reference voltage input terminal. Establishes DAC B full-scale output voltage. Can be tied to VDD pin.", 8 RFBB (out) "Establish voltage output for DAC B by connecting to external amplifier output.", 9 SDI (in) "Serial data input; data loads directly into the shift register.", 10 ~{RS} (in) "Reset pin; active low input. Input registers and DAC registers are set to all 0s or midscale. Register data = 0x0000 when MSB = 0. Register data = 0x8000 when MSB = 1 for DAC8802.", 11 ~{CS} (in) "Chip-select; active low input. Disables shift register loading when high. Transfers serial register data to input register when C\S\ goes high. Does not affect L\D\A\C\ operation.", 12 DGND (power) "Digital ground.", 13 VDD (power) "Positive power-supply input. Specified range of operation 2.7 V to 5.5 V.", 14 MSB (in) "MSB bit sets output to either 0 or midscale during a RESET pulse (R\S\) or at system power-on. Output equals zero scale when MSB = 0 and midscale when MSB = 1. MSB pin can be permanently tied to ground or VDD.", 15 ~{LDAC} (in) "Load DAC register strobe; level sensitive active low. Transfers all input register data to the DAC registers. Asynchronous active low input. See Table 2 for operation.", 16 CLK (in) "Clock input. Positive edge clocks data into shift register."

## DAC8812IBPWRG4
designator U?
16-Bit, Dual Serial Input Multiplying DAC, -40 to 85 degC, 16-pin SOP (PW16), Green (RoHS & no Sb/Br); Manufacturer: Texas Instruments; PartNumber: DAC8812IBPWRG4; DAC Channels: 2; DNL(Max)(+/-LSB): 1; Interface: Serial SPI; Power Consumption(Typ)(mW): 0.025; Resolution(Bits): 16; Settling Time(us): 0.5; SubFamily: Precision DAC (=<10MSPS); DatasheetVersion: SBAS349B; PackageVersion: 4040064-4/G, 02/2011; PackageReference: PW16; PackageDescription: 16-Pin Plastic Small Outline, Body 5 x 4.4 mm, Pitch 0.65 mm; Supplier 1: Digi-Key; Supplier Part Number 1: DAC8812IBPWRG4-ND; Supplier 2: Mouser; Supplier Part Number 2: 595-DAC8812IBPWRG4; Eco-Plan: Green (RoHS & no Sb/Br); INL(Max)(+/-LSB): 2; Mounting Technology: Surface Mount; Code_JEDEC: MO-153; ComponentLink1Description: Manufacturer URL; ComponentLink1URL: http://www.ti.com/; ComponentLink2Description: Datasheet; ComponentLink2URL: http://www.ti.com/general/docs/lit/getliterature.tsp?genericPartNumber=DAC8812&fileType=pdf; ComponentLink3Description: Package Specification; ComponentLink3URL: http://www.ti.com/lit/ml/mpds361/mpds361.pdf
footprint TI-PW16_N (SOP, 16-Leads, Body 5x4.4mm, Pitch 0.65mm, IPC Medium Density)
footprint TI-PW16_L (SOP, 16-Leads, Body 5x4.4mm, Pitch 0.65mm, IPC High Density)
footprint TI-PW16_M (SOP, 16-Leads, Body 5x4.4mm, Pitch 0.65mm, IPC Low Density)
pins: 1 RFBA (out) "Establish voltage output for DAC A by connecting to external amplifier output.", 2 VREFA (in) "DAC A Reference voltage input terminal. Establishes DAC A full-scale output voltage. Can be tied to VDD pin.", 3 IOUTA (out) "DAC A Current output.", 4 AGNDA (power) "DAC A Analog ground.", 5 AGNDB (power) "DAC B Analog ground.", 6 IOUTB (out) "DAC B Current output.", 7 VREFB (in) "DAC B Reference voltage input terminal. Establishes DAC B full-scale output voltage. Can be tied to VDD pin.", 8 RFBB (out) "Establish voltage output for DAC B by connecting to external amplifier output.", 9 SDI (in) "Serial data input; data loads directly into the shift register.", 10 ~{RS} (in) "Reset pin; active low input. Input registers and DAC registers are set to all 0s or midscale. Register data = 0x0000 when MSB = 0. Register data = 0x8000 when MSB = 1 for DAC8802.", 11 ~{CS} (in) "Chip-select; active low input. Disables shift register loading when high. Transfers serial register data to input register when C\S\ goes high. Does not affect L\D\A\C\ operation.", 12 DGND (power) "Digital ground.", 13 VDD (power) "Positive power-supply input. Specified range of operation 2.7 V to 5.5 V.", 14 MSB (in) "MSB bit sets output to either 0 or midscale during a RESET pulse (R\S\) or at system power-on. Output equals zero scale when MSB = 0 and midscale when MSB = 1. MSB pin can be permanently tied to ground or VDD.", 15 ~{LDAC} (in) "Load DAC register strobe; level sensitive active low. Transfers all input register data to the DAC registers. Asynchronous active low input. See Table 2 for operation.", 16 CLK (in) "Clock input. Positive edge clocks data into shift register."

## DAC8812ICPW
designator U?
16-Bit, Dual Serial Input Multiplying DAC, -40 to 85 degC, 16-pin SOP (PW16), Green (RoHS & no Sb/Br); Manufacturer: Texas Instruments; PartNumber: DAC8812ICPW; DAC Channels: 2; DNL(Max)(+/-LSB): 1; Interface: Serial SPI; Power Consumption(Typ)(mW): 0.025; Resolution(Bits): 16; Settling Time(us): 0.5; SubFamily: Precision DAC (=<10MSPS); DatasheetVersion: SBAS349B; PackageVersion: 4040064-4/G, 02/2011; PackageReference: PW16; PackageDescription: 16-Pin Plastic Small Outline, Body 5 x 4.4 mm, Pitch 0.65 mm; Supplier 1: Digi-Key; Supplier Part Number 1: 296-19407-5-ND; Supplier 2: Farnell; Supplier Part Number 2: 1564903; Supplier 3: Newark; Supplier Part Number 3: 71K2666; Supplier 4: Mouser; Supplier Part Number 4: 595-DAC8812ICPW; Eco-Plan: Green (RoHS & no Sb/Br); INL(Max)(+/-LSB): 1; Mounting Technology: Surface Mount; Code_JEDEC: MO-153; ComponentLink1Description: Manufacturer URL; ComponentLink1URL: http://www.ti.com/; ComponentLink2Description: Datasheet; ComponentLink2URL: http://www.ti.com/general/docs/lit/getliterature.tsp?genericPartNumber=DAC8812&fileType=pdf; ComponentLink3Description: Package Specification; ComponentLink3URL: http://www.ti.com/lit/ml/mpds361/mpds361.pdf
footprint TI-PW16_N (SOP, 16-Leads, Body 5x4.4mm, Pitch 0.65mm, IPC Medium Density)
footprint TI-PW16_L (SOP, 16-Leads, Body 5x4.4mm, Pitch 0.65mm, IPC High Density)
footprint TI-PW16_M (SOP, 16-Leads, Body 5x4.4mm, Pitch 0.65mm, IPC Low Density)
pins: 1 RFBA (out) "Establish voltage output for DAC A by connecting to external amplifier output.", 2 VREFA (in) "DAC A Reference voltage input terminal. Establishes DAC A full-scale output voltage. Can be tied to VDD pin.", 3 IOUTA (out) "DAC A Current output.", 4 AGNDA (power) "DAC A Analog ground.", 5 AGNDB (power) "DAC B Analog ground.", 6 IOUTB (out) "DAC B Current output.", 7 VREFB (in) "DAC B Reference voltage input terminal. Establishes DAC B full-scale output voltage. Can be tied to VDD pin.", 8 RFBB (out) "Establish voltage output for DAC B by connecting to external amplifier output.", 9 SDI (in) "Serial data input; data loads directly into the shift register.", 10 ~{RS} (in) "Reset pin; active low input. Input registers and DAC registers are set to all 0s or midscale. Register data = 0x0000 when MSB = 0. Register data = 0x8000 when MSB = 1 for DAC8802.", 11 ~{CS} (in) "Chip-select; active low input. Disables shift register loading when high. Transfers serial register data to input register when C\S\ goes high. Does not affect L\D\A\C\ operation.", 12 DGND (power) "Digital ground.", 13 VDD (power) "Positive power-supply input. Specified range of operation 2.7 V to 5.5 V.", 14 MSB (in) "MSB bit sets output to either 0 or midscale during a RESET pulse (R\S\) or at system power-on. Output equals zero scale when MSB = 0 and midscale when MSB = 1. MSB pin can be permanently tied to ground or VDD.", 15 ~{LDAC} (in) "Load DAC register strobe; level sensitive active low. Transfers all input register data to the DAC registers. Asynchronous active low input. See Table 2 for operation.", 16 CLK (in) "Clock input. Positive edge clocks data into shift register."

## DAC8812ICPWG4
designator U?
16-Bit, Dual Serial Input Multiplying DAC, -40 to 85 degC, 16-pin SOP (PW16), Green (RoHS & no Sb/Br); Manufacturer: Texas Instruments; PartNumber: DAC8812ICPWG4; DAC Channels: 2; DNL(Max)(+/-LSB): 1; Interface: Serial SPI; Power Consumption(Typ)(mW): 0.025; Resolution(Bits): 16; Settling Time(us): 0.5; SubFamily: Precision DAC (=<10MSPS); DatasheetVersion: SBAS349B; PackageVersion: 4040064-4/G, 02/2011; PackageReference: PW16; PackageDescription: 16-Pin Plastic Small Outline, Body 5 x 4.4 mm, Pitch 0.65 mm; Supplier 1: Digi-Key; Supplier Part Number 1: DAC8812ICPWG4-ND; Supplier 2: Farnell; Supplier Part Number 2: 1390687; Supplier 3: Newark; Supplier Part Number 3: 61M5763; Supplier 4: Mouser; Supplier Part Number 4: 595-DAC8812ICPWG4; Eco-Plan: Green (RoHS & no Sb/Br); INL(Max)(+/-LSB): 1; Mounting Technology: Surface Mount; Code_JEDEC: MO-153; ComponentLink1Description: Manufacturer URL; ComponentLink1URL: http://www.ti.com/; ComponentLink2Description: Datasheet; ComponentLink2URL: http://www.ti.com/general/docs/lit/getliterature.tsp?genericPartNumber=DAC8812&fileType=pdf; ComponentLink3Description: Package Specification; ComponentLink3URL: http://www.ti.com/lit/ml/mpds361/mpds361.pdf
footprint TI-PW16_N (SOP, 16-Leads, Body 5x4.4mm, Pitch 0.65mm, IPC Medium Density)
footprint TI-PW16_L (SOP, 16-Leads, Body 5x4.4mm, Pitch 0.65mm, IPC High Density)
footprint TI-PW16_M (SOP, 16-Leads, Body 5x4.4mm, Pitch 0.65mm, IPC Low Density)
pins: 1 RFBA (out) "Establish voltage output for DAC A by connecting to external amplifier output.", 2 VREFA (in) "DAC A Reference voltage input terminal. Establishes DAC A full-scale output voltage. Can be tied to VDD pin.", 3 IOUTA (out) "DAC A Current output.", 4 AGNDA (power) "DAC A Analog ground.", 5 AGNDB (power) "DAC B Analog ground.", 6 IOUTB (out) "DAC B Current output.", 7 VREFB (in) "DAC B Reference voltage input terminal. Establishes DAC B full-scale output voltage. Can be tied to VDD pin.", 8 RFBB (out) "Establish voltage output for DAC B by connecting to external amplifier output.", 9 SDI (in) "Serial data input; data loads directly into the shift register.", 10 ~{RS} (in) "Reset pin; active low input. Input registers and DAC registers are set to all 0s or midscale. Register data = 0x0000 when MSB = 0. Register data = 0x8000 when MSB = 1 for DAC8802.", 11 ~{CS} (in) "Chip-select; active low input. Disables shift register loading when high. Transfers serial register data to input register when C\S\ goes high. Does not affect L\D\A\C\ operation.", 12 DGND (power) "Digital ground.", 13 VDD (power) "Positive power-supply input. Specified range of operation 2.7 V to 5.5 V.", 14 MSB (in) "MSB bit sets output to either 0 or midscale during a RESET pulse (R\S\) or at system power-on. Output equals zero scale when MSB = 0 and midscale when MSB = 1. MSB pin can be permanently tied to ground or VDD.", 15 ~{LDAC} (in) "Load DAC register strobe; level sensitive active low. Transfers all input register data to the DAC registers. Asynchronous active low input. See Table 2 for operation.", 16 CLK (in) "Clock input. Positive edge clocks data into shift register."

## DAC8812ICPWR
designator U?
16-Bit, Dual Serial Input Multiplying DAC, -40 to 85 degC, 16-pin SOP (PW16), Green (RoHS & no Sb/Br); Manufacturer: Texas Instruments; PartNumber: DAC8812ICPWR; DAC Channels: 2; DNL(Max)(+/-LSB): 1; Interface: Serial SPI; Power Consumption(Typ)(mW): 0.025; Resolution(Bits): 16; Settling Time(us): 0.5; SubFamily: Precision DAC (=<10MSPS); DatasheetVersion: SBAS349B; PackageVersion: 4040064-4/G, 02/2011; PackageReference: PW16; PackageDescription: 16-Pin Plastic Small Outline, Body 5 x 4.4 mm, Pitch 0.65 mm; Supplier 1: Digi-Key; Supplier Part Number 1: DAC8812ICPWR-ND; Supplier 2: Mouser; Supplier Part Number 2: 595-DAC8812ICPWR; Eco-Plan: Green (RoHS & no Sb/Br); INL(Max)(+/-LSB): 1; Mounting Technology: Surface Mount; Code_JEDEC: MO-153; ComponentLink1Description: Manufacturer URL; ComponentLink1URL: http://www.ti.com/; ComponentLink2Description: Datasheet; ComponentLink2URL: http://www.ti.com/general/docs/lit/getliterature.tsp?genericPartNumber=DAC8812&fileType=pdf; ComponentLink3Description: Package Specification; ComponentLink3URL: http://www.ti.com/lit/ml/mpds361/mpds361.pdf
footprint TI-PW16_N (SOP, 16-Leads, Body 5x4.4mm, Pitch 0.65mm, IPC Medium Density)
footprint TI-PW16_L (SOP, 16-Leads, Body 5x4.4mm, Pitch 0.65mm, IPC High Density)
footprint TI-PW16_M (SOP, 16-Leads, Body 5x4.4mm, Pitch 0.65mm, IPC Low Density)
pins: 1 RFBA (out) "Establish voltage output for DAC A by connecting to external amplifier output.", 2 VREFA (in) "DAC A Reference voltage input terminal. Establishes DAC A full-scale output voltage. Can be tied to VDD pin.", 3 IOUTA (out) "DAC A Current output.", 4 AGNDA (power) "DAC A Analog ground.", 5 AGNDB (power) "DAC B Analog ground.", 6 IOUTB (out) "DAC B Current output.", 7 VREFB (in) "DAC B Reference voltage input terminal. Establishes DAC B full-scale output voltage. Can be tied to VDD pin.", 8 RFBB (out) "Establish voltage output for DAC B by connecting to external amplifier output.", 9 SDI (in) "Serial data input; data loads directly into the shift register.", 10 ~{RS} (in) "Reset pin; active low input. Input registers and DAC registers are set to all 0s or midscale. Register data = 0x0000 when MSB = 0. Register data = 0x8000 when MSB = 1 for DAC8802.", 11 ~{CS} (in) "Chip-select; active low input. Disables shift register loading when high. Transfers serial register data to input register when C\S\ goes high. Does not affect L\D\A\C\ operation.", 12 DGND (power) "Digital ground.", 13 VDD (power) "Positive power-supply input. Specified range of operation 2.7 V to 5.5 V.", 14 MSB (in) "MSB bit sets output to either 0 or midscale during a RESET pulse (R\S\) or at system power-on. Output equals zero scale when MSB = 0 and midscale when MSB = 1. MSB pin can be permanently tied to ground or VDD.", 15 ~{LDAC} (in) "Load DAC register strobe; level sensitive active low. Transfers all input register data to the DAC registers. Asynchronous active low input. See Table 2 for operation.", 16 CLK (in) "Clock input. Positive edge clocks data into shift register."

## DAC8812ICPWRG4
designator U?
16-Bit, Dual Serial Input Multiplying DAC, -40 to 85 degC, 16-pin SOP (PW16), Green (RoHS & no Sb/Br); Manufacturer: Texas Instruments; PartNumber: DAC8812ICPWRG4; DAC Channels: 2; DNL(Max)(+/-LSB): 1; Interface: Serial SPI; Power Consumption(Typ)(mW): 0.025; Resolution(Bits): 16; Settling Time(us): 0.5; SubFamily: Precision DAC (=<10MSPS); DatasheetVersion: SBAS349B; PackageVersion: 4040064-4/G, 02/2011; PackageReference: PW16; PackageDescription: 16-Pin Plastic Small Outline, Body 5 x 4.4 mm, Pitch 0.65 mm; Supplier 1: Digi-Key; Supplier Part Number 1: DAC8812ICPWRG4-ND; Supplier 2: Mouser; Supplier Part Number 2: 595-DAC8812ICPWRG4; Eco-Plan: Green (RoHS & no Sb/Br); INL(Max)(+/-LSB): 1; Mounting Technology: Surface Mount; Code_JEDEC: MO-153; ComponentLink1Description: Manufacturer URL; ComponentLink1URL: http://www.ti.com/; ComponentLink2Description: Datasheet; ComponentLink2URL: http://www.ti.com/general/docs/lit/getliterature.tsp?genericPartNumber=DAC8812&fileType=pdf; ComponentLink3Description: Package Specification; ComponentLink3URL: http://www.ti.com/lit/ml/mpds361/mpds361.pdf
footprint TI-PW16_N (SOP, 16-Leads, Body 5x4.4mm, Pitch 0.65mm, IPC Medium Density)
footprint TI-PW16_L (SOP, 16-Leads, Body 5x4.4mm, Pitch 0.65mm, IPC High Density)
footprint TI-PW16_M (SOP, 16-Leads, Body 5x4.4mm, Pitch 0.65mm, IPC Low Density)
pins: 1 RFBA (out) "Establish voltage output for DAC A by connecting to external amplifier output.", 2 VREFA (in) "DAC A Reference voltage input terminal. Establishes DAC A full-scale output voltage. Can be tied to VDD pin.", 3 IOUTA (out) "DAC A Current output.", 4 AGNDA (power) "DAC A Analog ground.", 5 AGNDB (power) "DAC B Analog ground.", 6 IOUTB (out) "DAC B Current output.", 7 VREFB (in) "DAC B Reference voltage input terminal. Establishes DAC B full-scale output voltage. Can be tied to VDD pin.", 8 RFBB (out) "Establish voltage output for DAC B by connecting to external amplifier output.", 9 SDI (in) "Serial data input; data loads directly into the shift register.", 10 ~{RS} (in) "Reset pin; active low input. Input registers and DAC registers are set to all 0s or midscale. Register data = 0x0000 when MSB = 0. Register data = 0x8000 when MSB = 1 for DAC8802.", 11 ~{CS} (in) "Chip-select; active low input. Disables shift register loading when high. Transfers serial register data to input register when C\S\ goes high. Does not affect L\D\A\C\ operation.", 12 DGND (power) "Digital ground.", 13 VDD (power) "Positive power-supply input. Specified range of operation 2.7 V to 5.5 V.", 14 MSB (in) "MSB bit sets output to either 0 or midscale during a RESET pulse (R\S\) or at system power-on. Output equals zero scale when MSB = 0 and midscale when MSB = 1. MSB pin can be permanently tied to ground or VDD.", 15 ~{LDAC} (in) "Load DAC register strobe; level sensitive active low. Transfers all input register data to the DAC registers. Asynchronous active low input. See Table 2 for operation.", 16 CLK (in) "Clock input. Positive edge clocks data into shift register."